# Altium schematic symbol library lib_Thom.SchLib: 2 symbols
Pins are listed as number, name and electrical type; pins without a type are passive.

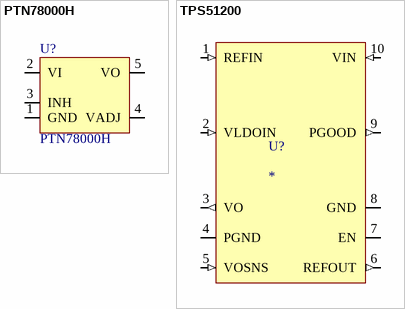
[diagram p0: symbols PTN78000H to TPS51200]

## PTN78000H
designator U?
XXX - 1.5-A, / WIDE-INPUT / ADJUSTABLE / SWITCHING / REGULATOR - Package; GRAMS Lib Spec: 2.7
pins: 1 GND, 2 VI, 3 INH, 4 VADJ, 5 VO

## TPS51200
designator U?
TPS51200 / Sink and Source / DDR Termination / Regulator
pins: 1 REFIN (in), 2 VLDOIN (in), 3 VO (out), 4 PGND (power), 5 VOSNS (in), 6 REFOUT (out), 7 EN, 8 GND (power), 9 PGOOD (out), 10 VIN (in)